# Altium footprint library Tranzistory.PcbLib: 9 footprints
Each footprint in its own frame and in the unit in brackets; x right, y up, seen from the top. Pads: shape width x height; smd on the part's side, far side on the other; paste and mask are expansions set on the pad; w line width, h text height; cw(c..) or ccw(c..) is an arc to the next point about the centre after c.
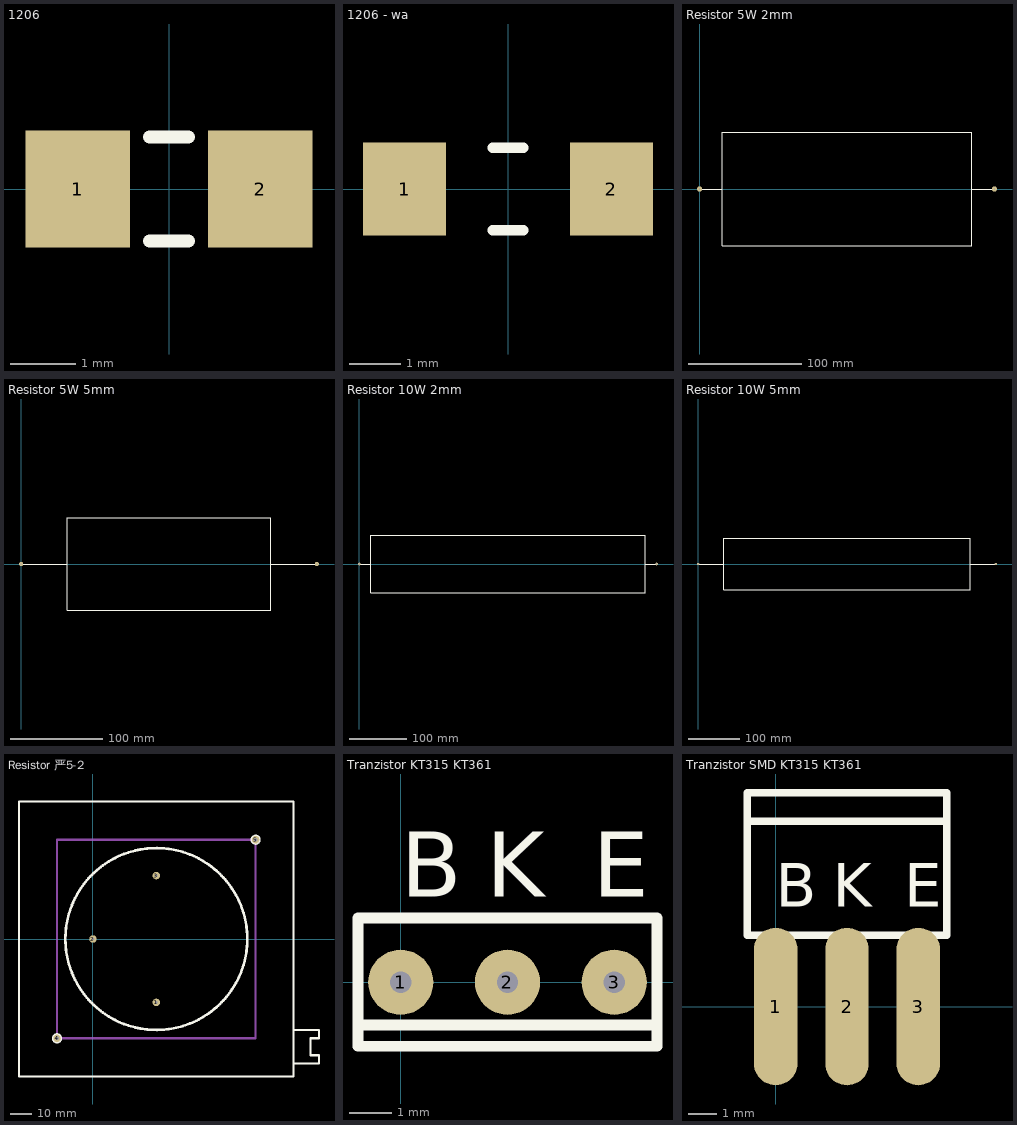
[diagram p0: the footprints below, top view; thin cyan lines are the x and y axes]

## 1206 [mm] "Chip Resistor; Body 3.1 x 1.6 mm (LxW typ)"
height 0.7
pads (2):
  rect 1.6x1.8 smd: 1(-1.4,0) 2(1.4,0)
Top Overlay:
  lines w0.2: -0.3,-0.8 0.3,-0.8 ; -0.3,0.8 0.3,0.8

## 1206 - wa [mm] "Chip Resistor; Body 3.1 x 1.6 mm (LxW typ)"
height 0.7
pads (2):
  rect 1.6x1.8 smd: 1(-2,0) 2(2,0)
Top Overlay:
  lines w0.2: -0.3,-0.8 0.3,-0.8 ; -0.3,0.8 0.3,0.8

## Resistor 5W 2mm [mm]
pads (2):
  round 4.524 hole 0.5: 1(0,0) 2(260,0)
Top Overlay:
  lines w1: 0,0 20,0 ; 240,0 260,0 ; 20,0 20,50 240,50 240,-50 20,-50 20,0

## Resistor 5W 5mm [mm]
pads (2):
  round 4.524 hole 0.5: 1(0,0) 2(320,0)
Top Overlay:
  lines w1: 0,0 50,0 50,50 270,50 270,-50 50,-50 50,1 ; 270,0 320,0

## Resistor 10W 2mm [mm]
pads (2):
  round 4.524 hole 0.5: 1(0,0) 2(520,0)
Top Overlay:
  lines w1: 0,0 20,0 ; 520,0 500,0 ; 500,0 500,-50 20,-50 20,50 500,50 500,0

## Resistor 10W 5mm [mm]
pads (2):
  round 4.524 hole 0.5: 1(0,0) 2(580,0)
Top Overlay:
  lines w1: 0,0 50,0 ; 580,0 530,0 ; 530,0 530,-50 506,-50 50,-50 50,50 530,50 530,0

## Resistor 严5-2 [mm]
pads (5):
  round 3.524 hole 1.3: 1(30,-30) 2(0,0) 3(30,30)
  round 3.524 hole 1.8: 4(-17,-47) 5(77,47)
Top Overlay:
  circle w1.254: c30,0 r43.046
  circle w1: c77,47 r1.9
  circle w1: c-17,-47 r1.9
  lines w1: -35,-65 -35,65 94.9,65 ; -35,-64.8 -34.8,-65 95,-65 95,65 ; 95,-59 107,-59 107,-55 103,-55 103,-47 107,-47 107,-43 95,-43
Mechanical 1:
  lines w1: -17.8,-47 77,-47 77,46.9 ; -17,-46.8 -17,47 76.7,47

## Tranzistor KT315 KT361 [mil]
pads (3):
  round 60 hole 19.68: 1(0,0) 2(98.43,0) 3(196.85,0)
Top Overlay:
  lines w10: -39.37,-39.37 236.22,-39.37 ; -39.37,-59.06 236.22,-59.06 236.22,59.06 -39.37,59.06 -39.37,0 -39.37,-59.06
  text "E" at 177.17,78.74 h60
  text "K" at 78.74,78.74 h60
  text "B" at 0,78.74 h60

## Tranzistor SMD KT315 KT361 [mil]
pads (3):
  oval 60x217.48 smd: 1(0,0) 2(98.43,0) 3(196.85,0)
Top Overlay:
  lines w10: -39.37,255.91 236.22,255.91 ; -39.37,98.43 -39.37,295.28 236.22,295.28 236.22,98.43 -39.37,98.43
  text "E" at 177.17,137.8 h60
  text "K" at 78.74,137.8 h60
  text "B" at 0,137.8 h60